# EAGLE library part OPA2337 (library Cerebro-library)
Texas instruments OPA2337 dual op-amp. SOT23-8 Digikey 296-26252-1-ND <https://www.digikey.com/products/en?keywords=296-26252-1-ND>
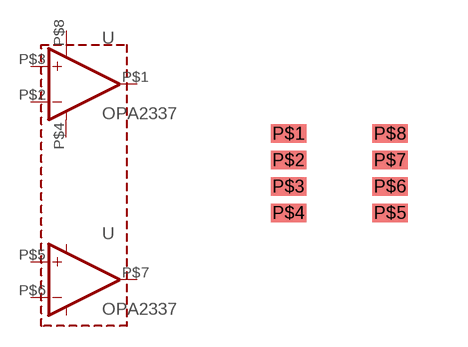
[diagram p7: symbol with the pads of SOT23-8; footprint SOT23-8]

Designator prefix -

## OPA2337  [SOT23-8]
P$1  OUTA  out
P$2  INA-  in
P$3  INA+  in
P$4  V-  pwr
P$5  INB+  in
P$6  INB-  in
P$7  OUTB  out
P$8  V+  pwr

## Footprint SOT23-8 (pad centres in mm)
smd 0.889 x 0.457: P$1 -1.27,0.991; P$2 -1.27,0.33; P$3 -1.27,-0.33; P$4 -1.27,-0.991; P$5 1.27,-0.991; P$6 1.27,-0.33; P$7 1.27,0.33; P$8 1.27,0.991